# Altium schematic symbol library MT6816.SchLib: 1 symbol
Pins are listed as number, name and electrical type; pins without a type are passive.

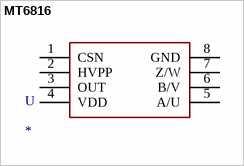
[diagram p0: symbol MT6816]

## MT6816
designator U
pins: 1 CSN, 2 HVPP, 3 OUT, 4 VDD, 5 A/U, 6 B/V, 7 Z/W, 8 GND